# EAGLE library part BTS50080-1TMC (library mosfet-infineon)
BTS50080-1TMC Smart High-Side Power Switch, One Channel, PROFET VBB MAX 38V TO127P1385X450-8N
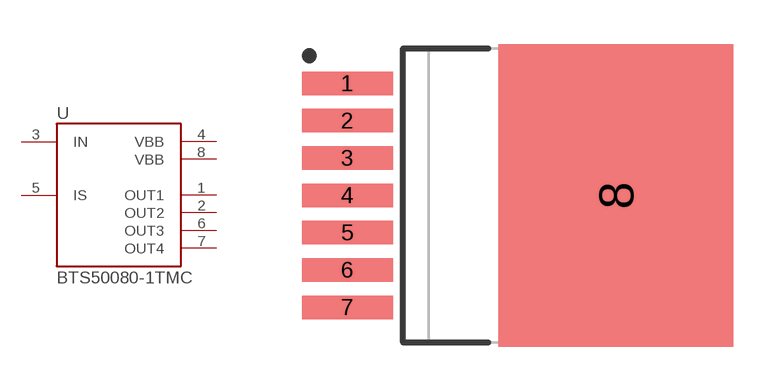
[diagram p38: symbol with the pads of TO127P1385X450-8N; footprint TO127P1385X450-8N]

Designator prefix U

## BTS50080-1TMC  [TO127P1385X450-8N]
1  OUT1  out
2  OUT2  out
3  IN  in
4  VBB  pwr
5  IS  out
6  OUT3  out
7  OUT4  out
8  VBB  pwr

## Footprint TO127P1385X450-8N (pad centres in mm)
Original name TO127P1385X450-8N Max Component Height - 4.5mm
smd 3.1 x 0.8: 1 -4.575,3.81; 2 -4.575,2.54; 3 -4.575,1.27; 4 -4.575,0; 5 -4.575,-1.27; 6 -4.575,-2.54; 7 -4.575,-3.81
smd 8 x 10.3: 8 4.575,0